# Altium footprint library MOLEX_2171760001.PcbLib: 1 footprints
Each footprint in its own frame and in the unit in brackets; x right, y up, seen from the top. Pads: shape width x height; smd on the part's side, far side on the other; paste and mask are expansions set on the pad; w line width, h text height; cw(c..) or ccw(c..) is an arc to the next point about the centre after c.
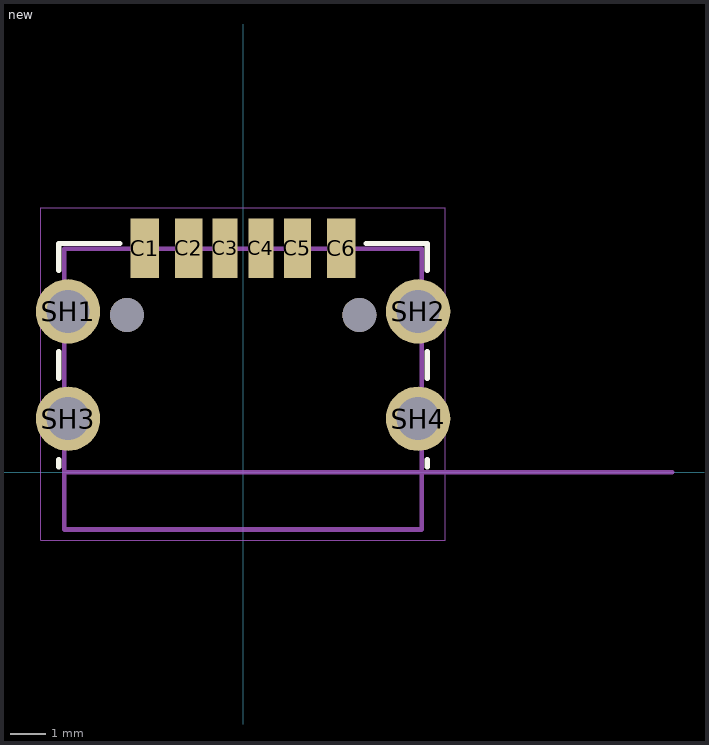
[diagram p0: the footprint, top view; thin cyan lines are the x and y axes]

## new [mm]
height 4.86
pads (12):
  rect 0.8x1.67 smd mask+0.064: C1(-2.75,6.265) C6(2.75,6.265)
  rect 0.76x1.67 smd mask+0.064: C2(-1.52,6.265) C5(1.52,6.265)
  rect 0.7x1.67 smd mask+0.064: C3(-0.5,6.265) C4(0.5,6.265)
  round 1.8 hole 1.2 mask+0.064: SH1(-4.895,4.5) SH2(4.895,4.5) SH3(-4.895,1.5) SH4(4.895,1.5)
  round 0.95 hole 0.95 mask+0.064: ""(-3.25,4.4) ""(3.25,4.4)
Top Overlay:
  lines w0.15: -5.15,0.15 -5.15,0.35 ; -5.15,2.63 -5.15,3.37 ; -5.15,5.65 -5.15,6.4 -3.45,6.4 ; 3.45,6.4 5.15,6.4 5.15,5.65 ; 5.15,0.15 5.15,0.35 ; 5.15,2.63 5.15,3.37
Mechanical 13:
  lines w0.13: 12,0 -5,0 ; -5,0 -5,-1.6 5,-1.6 5,6.25 -5,6.25 -5,0
  text "PCB Edge" at 5.75,0.25 h1
Mechanical 15:
  lines w0.01: -5.655,-1.9 5.655,-1.9 5.655,7.4 -5.655,7.4 -5.655,-1.9
3D body "2171760001.stp": height 4.81, standoff -1.2, extent -5.32,-2.019 5.32,6.731